# Altium footprint library D_SUB_9x2_0.PcbLib: 1 footprints
Each footprint in its own frame and in the unit in brackets; x right, y up, seen from the top. Pads: shape width x height; smd on the part's side, far side on the other; paste and mask are expansions set on the pad; w line width, h text height; cw(c..) or ccw(c..) is an arc to the next point about the centre after c.
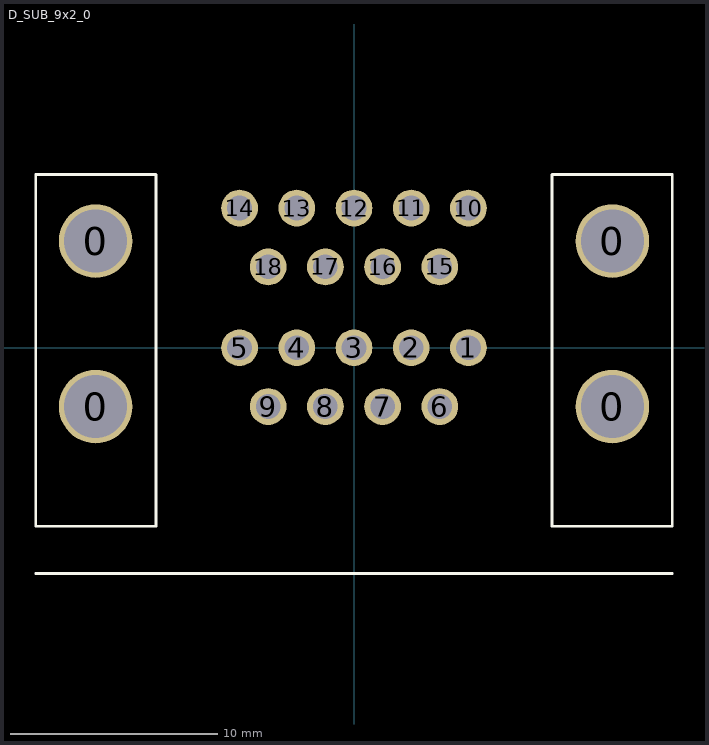
[diagram p0: the footprint, top view; thin cyan lines are the x and y axes]

## D_SUB_9x2_0 [mil] "NorComp Dual 9-pin D-Sub"
pads (22):
  round 140 hole 120: 0(-492,-112) 0(-492,203) 0(492,-112) 0(492,203)
  round 70 hole 47: 1(218,0) 2(109,0) 3(0,0) 4(-109,0) 5(-218,0) 6(163.5,-112) 7(54.5,-112) 8(-54.5,-112) 9(-163.5,-112) 10(218,266) 11(109,266) 12(0,266) 13(-109,266) 14(-218,266) 15(163.5,154) 16(54.5,154) 17(-54.5,154) 18(-163.5,154)
Top Overlay:
  lines w5: -606,-430 606,-430 ; -606,-340 -606,330 -377,330 -377,-340 -606,-340 ; 377,-340 377,330 606,330 606,-340 377,-340
3D body "178-009-513.STEP": height 1251, standoff -125, extent -606,-671 607,330